# Altium schematic symbol library LMR10510XMF.SchLib: 1 symbol
Pins are listed as number, name and electrical type; pins without a type are passive.

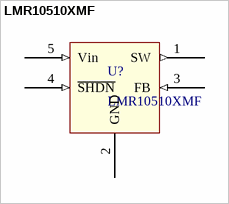
[diagram p0: symbol LMR10510XMF]

## LMR10510XMF
designator U?
Step down converter
footprint LMR10510 footprint
pins: 1 SW (out), 2 GND (power), 3 FB (in), 4 ~{SHDN} (in), 5 Vin (in)